# EAGLE library part IC-CPLD-XILINX-5V-XC9536 (library mylib)
XILINX CPLD DEVICE : 44pin Package
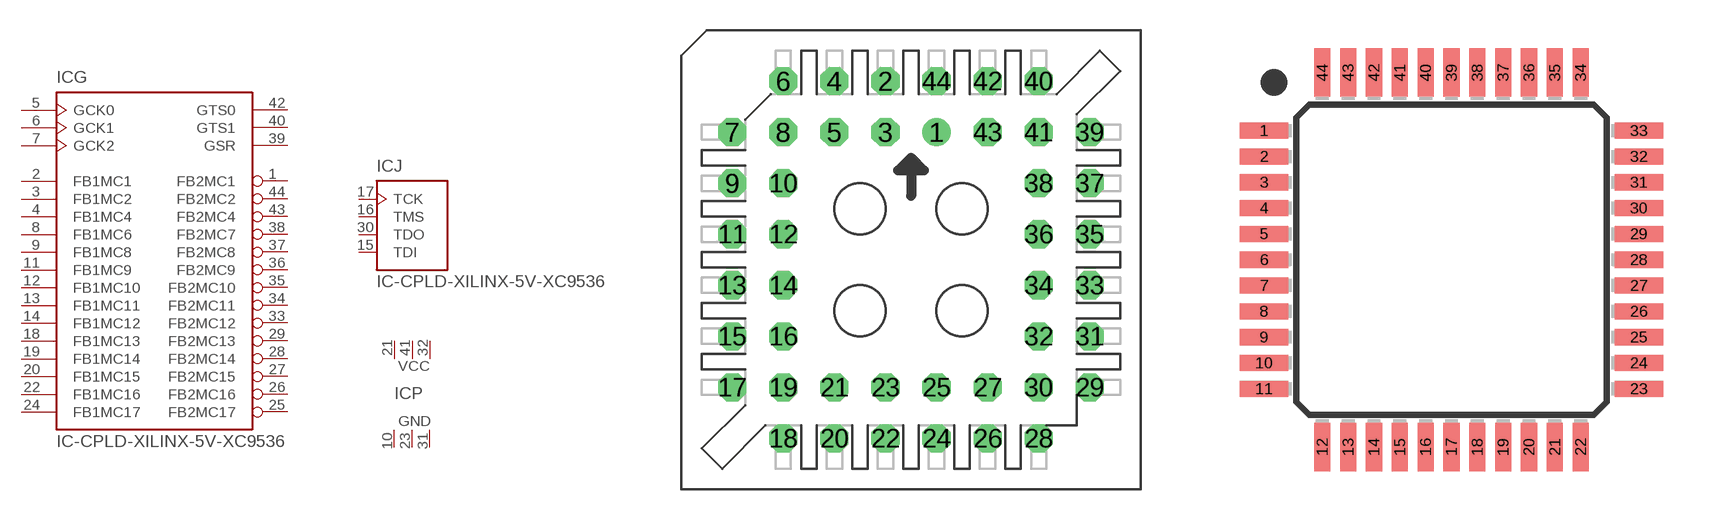
[diagram p40: symbol with the pads of IC-SOCKET-PLCC-44; footprints IC-SOCKET-PLCC-44, IC-44-0.8-TQFP]

Designator prefix IC; gates G=IC-CPLD-XILINX-5V-XC9536 J=PART-XILINX-JTAG P=PART-XILINX-PWR6

## IC-CPLD-XILINX-5V-XC9536-PLCC  [IC-SOCKET-PLCC-44]
1  G:FB2MC1
2  G:FB1MC1
3  G:FB1MC2
4  G:FB1MC4
5  G:GCK0  in
6  G:GCK1  in
7  G:GCK2  in
8  G:FB1MC6
9  G:FB1MC8
10  P:GND  pwr
11  G:FB1MC9
12  G:FB1MC10
13  G:FB1MC11
14  G:FB1MC12
15  J:TDI  in
16  J:TMS  in
17  J:TCK  in
18  G:FB1MC13
19  G:FB1MC14
20  G:FB1MC15
21  P:VCC  pwr
22  G:FB1MC16
23  P:GND  pwr
24  G:FB1MC17
25  G:FB2MC17
26  G:FB2MC16
27  G:FB2MC15
28  G:FB2MC14
29  G:FB2MC13
30  J:TDO  out
31  P:GND  pwr
32  P:VCC  pwr
33  G:FB2MC12
34  G:FB2MC11
35  G:FB2MC10
36  G:FB2MC9
37  G:FB2MC8
38  G:FB2MC7
39  G:GSR  in
40  G:GTS1  in
41  P:VCC  pwr
42  G:GTS0  in
43  G:FB2MC4
44  G:FB2MC2

## IC-CPLD-XILINX-5V-XC9536-TQFP  [IC-44-0.8-TQFP]
1  G:GCK2  in
2  G:FB1MC6
3  G:FB1MC8
4  P:GND  pwr
5  G:FB1MC9
6  G:FB1MC10
7  G:FB1MC11
8  G:FB1MC12
9  J:TDI  in
10  J:TMS  in
11  J:TCK  in
12  G:FB1MC13
13  G:FB1MC14
14  G:FB1MC15
15  P:VCC  pwr
16  G:FB1MC16
17  P:GND  pwr
18  G:FB1MC17
19  G:FB2MC17
20  G:FB2MC16
21  G:FB2MC15
22  G:FB2MC14
23  G:FB2MC13
24  J:TDO  out
25  P:GND  pwr
26  P:VCC  pwr
27  G:FB2MC12
28  G:FB2MC11
29  G:FB2MC10
30  G:FB2MC9
31  G:FB2MC8
32  G:FB2MC7
33  G:GSR  in
34  G:GTS1  in
35  P:VCC  pwr
36  G:GTS0  in
37  G:FB2MC4
38  G:FB2MC2
39  G:FB2MC1
40  G:FB1MC1
41  G:FB1MC2
42  G:FB1MC4
43  G:GCK0  in
44  G:GCK1  in

## IC-CPLD-XILINX-5V-XC9536-TQFP2  [BOARD-HENKAN-QFP44]
Pads as for IC-44-0.8-TQFP

## Footprint IC-SOCKET-PLCC-44 (pad centres in mm)
drill 0.813 pad 1.397: 1 1.27,6.35
drill 0.813 pad 1.397 octagon: 2 -1.27,8.89; 3 -1.27,6.35; 4 -3.81,8.89; 5 -3.81,6.35; 6 -6.35,8.89; 7 -8.89,6.35; 8 -6.35,6.35; 9 -8.89,3.81; 10 -6.35,3.81; 11 -8.89,1.27; 12 -6.35,1.27; 13 -8.89,-1.27; 14 -6.35,-1.27; 15 -8.89,-3.81; 16 -6.35,-3.81; 17 -8.89,-6.35; 18 -6.35,-8.89; 19 -6.35,-6.35; 20 -3.81,-8.89; 21 -3.81,-6.35; 22 -1.27,-8.89; 23 -1.27,-6.35; 24 1.27,-8.89; 25 1.27,-6.35; 26 3.81,-8.89; 27 3.81,-6.35; 28 6.35,-8.89; 29 8.89,-6.35; 30 6.35,-6.35; 31 8.89,-3.81; 32 6.35,-3.81; 33 8.89,-1.27; 34 6.35,-1.27; 35 8.89,1.27; 36 6.35,1.27; 37 8.89,3.81; 38 6.35,3.81; 39 8.89,6.35; 40 6.35,8.89; 41 6.35,6.35; 42 3.81,8.89; 43 3.81,6.35; 44 1.27,8.89

## Footprint IC-44-0.8-TQFP (pad centres in mm)
Thin Quad Flat Pack package type TQ
smd 1.5 x 0.5: 1 -5.8,4; 2 -5.8,3.2; 3 -5.8,2.4; 4 -5.8,1.6; 5 -5.8,0.8; 6 -5.8,0; 7 -5.8,-0.8; 8 -5.8,-1.6; 9 -5.8,-2.4; 10 -5.8,-3.2; 11 -5.8,-4; 23 5.8,-4; 24 5.8,-3.2; 25 5.8,-2.4; 26 5.8,-1.6; 27 5.8,-0.8; 28 5.8,0; 29 5.8,0.8; 30 5.8,1.6; 31 5.8,2.4; 32 5.8,3.2; 33 5.8,4
smd 0.5 x 1.5: 12 -4,-5.8; 13 -3.2,-5.8; 14 -2.4,-5.8; 15 -1.6,-5.8; 16 -0.8,-5.8; 17 0,-5.8; 18 0.8,-5.8; 19 1.6,-5.8; 20 2.4,-5.8; 21 3.2,-5.8; 22 4,-5.8; 34 4,5.8; 35 3.2,5.8; 36 2.4,5.8; 37 1.6,5.8; 38 0.8,5.8; 39 0,5.8; 40 -0.8,5.8; 41 -1.6,5.8; 42 -2.4,5.8; 43 -3.2,5.8; 44 -4,5.8

## Footprint BOARD-HENKAN-QFP44 (pad centres in mm)
drill 0.7: 1 -8.89,6.35; 2 -11.43,3.81; 3 -8.89,3.81; 4 -11.43,1.27; 5 -8.89,1.27; 6 -11.43,-1.27; 7 -8.89,-1.27; 8 -11.43,-3.81; 9 -8.89,-3.81; 10 -11.43,-6.35; 11 -8.89,-6.35; 12 -6.35,-8.89; 13 -3.81,-11.43; 14 -3.81,-8.89; 15 -1.27,-11.43; 16 -1.27,-8.89; 17 1.27,-11.43; 18 1.27,-8.89; 19 3.81,-11.43; 20 3.81,-8.89; 21 6.35,-11.43; 22 6.35,-8.89; 23 8.89,-6.35; 24 11.43,-3.81; 25 8.89,-3.81; 26 11.43,-1.27; 27 8.89,-1.27; 28 11.43,1.27; 29 8.89,1.27; 30 11.43,3.81; 31 8.89,3.81; 32 11.43,6.35; 33 8.89,6.35; 34 6.35,8.89; 35 3.81,11.43; 36 3.81,8.89; 37 1.27,11.43; 38 1.27,8.89; 39 -1.27,11.43; 40 -1.27,8.89; 41 -3.81,11.43; 42 -3.81,8.89; 43 -6.35,11.43; 44 -6.35,8.89